# Altium schematic symbol library VTVRD.SchLib: 84 symbols
Pins are listed as number, name and electrical type; pins without a type are passive.

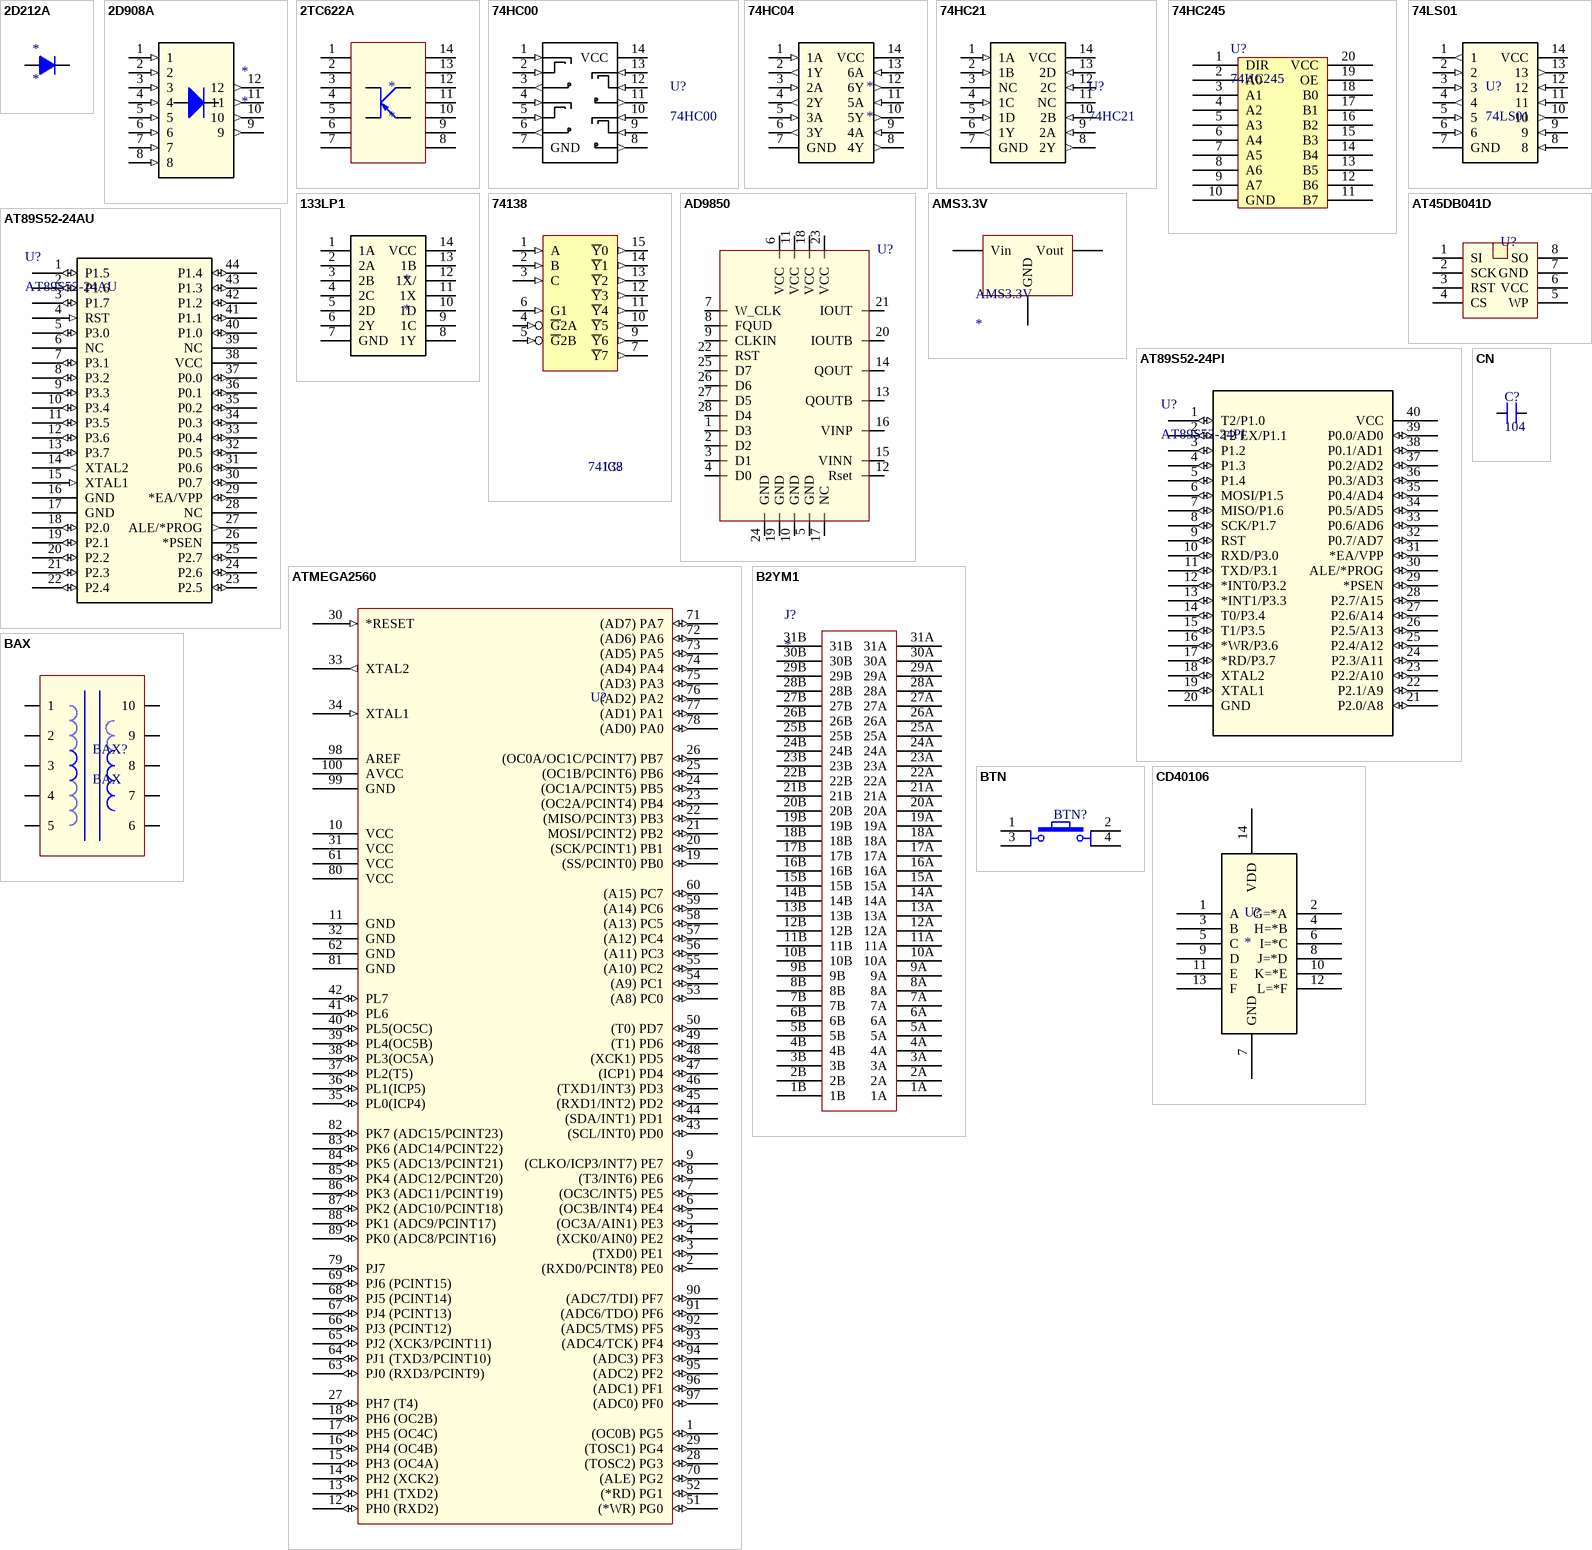
[diagram p0: symbols 2D212A to CN]

## 2D212A
designator *
footprint N2D212A
pins: 1 A, 2 K

## 2D908A
designator *
footprint 2D908A (SOIC, 14-Leads, Body 9.9x3.9mm, Pitch 1.27mm, IPC Medium Density)
pins: 1 (in), 2 (in), 3 (in), 4 (in), 5 (in), 6 (in), 7 (in), 8 (in), 9 (out), 10 (out), 11 (out), 12 (out)

## 2TC622A
designator *
footprint 74HC00
footprint N1HT251
pins: 1, 2, 3, 4, 5, 6, 7, 8, 9, 10 (power), 11, 12, 13, 14

## 74HC00
designator U?
footprint 74HC00
footprint DIP14/W0.3 (14PIN, W 300mil, Pin to pin 100mil)
pins: 1 1A (in), 2 1B (in), 3 1Y (out), 4 2A (in), 5 2B (in), 6 2Y (out), 7 GND (power), 8 3Y (out), 9 3A (in), 10 3B (in), 11 4Y (out), 12 4A (in), 13 4B (in), 14 VCC (power)

## 74HC04
designator *
footprint 74HC00
pins: 1 1A (in), 2 1Y (out), 3 2A (in), 4 2Y (out), 5 3A (in), 6 3Y (out), 7 GND (power), 8 4Y (out), 9 4A (in), 10 5Y (out), 11 5A (in), 12 6Y (out), 13 6A (in), 14 VCC (power)

## 74HC21
designator U?
footprint 74HC21
footprint DIP14/W0.3 (14PIN, W 300mil, Pin to pin 100mil)
pins: 1 1A (in), 2 1B (in), 3 NC, 4 1C (in), 5 1D (in), 6 1Y (out), 7 GND (power), 8 2Y (out), 9 2A (in), 10 2B (in), 11 NC, 12 2C (in), 13 2D (in), 14 VCC (power)

## 74HC245
designator U?
Octal bus tranceiver
footprint DIP20/W0.3 (DIP 20, 20 PIN, W 300mil, Pin to pin 100mil)
footprint SO-20 (20-Pin Small Outline Package 1.27 mm Pitch)
footprint SOT163
pins: 1 DIR, 2 A0, 3 A1, 4 A2, 5 A3, 6 A4, 7 A5, 8 A6, 9 A7, 10 GND (power), 11 B7, 12 B6, 13 B5, 14 B4, 15 B3, 16 B2, 17 B1, 18 B0, 19 OE, 20 VCC (power)

## 74LS01
designator U?
footprint DIP14/W0.3 (14PIN, W 300mil, Pin to pin 100mil)
pins: 1 (out), 2 (in), 3 (in), 4 (out), 5 (in), 6 (in), 7 GND (power), 8 (in), 9 (in), 10 (out), 11 (in), 12 (in), 13 (out), 14 VCC (power)

## 133LP1
designator *
footprint 74HC00
pins: 1 1A, 2 2A, 3 2B, 4 2C, 5 2D, 6 2Y, 7 GND (power), 8 1Y, 9 1C, 10 1D, 11 1X, 12 1X/, 13 1B, 14 VCC (power)

## 74138
designator IC?
3 -to- 8 Decoder - Out Low; Value: 74138; Copyright by: VanDungEvn@Gmail.com
footprint DIP16/W0.3 (16 PIN, W 300mil, Pin to pin 100mil)
footprint SO-16 (SOIC, 16-Leads, Body 9.9x3.9mm, Pitch 1.27mm, IPC Medium Density)
pins: 1 A (in), 2 B (in), 3 C (in), 4 ~{G}2A (in), 5 ~{G}2B (in), 6 G1 (in), 7 ~{Y}7 (out), 8 GND (power) hidden to GND, 9 ~{Y}6 (out), 10 ~{Y}5 (out), 11 ~{Y}4 (out), 12 ~{Y}3 (out), 13 ~{Y}2 (out), 14 ~{Y}1 (out), 15 ~{Y}0 (out), 16 VCC (power) hidden to VCC

## AD9850
designator U?  (value not drawn)
footprint AD9850
pins: 1 D3, 2 D2, 3 D1, 4 D0, 5 GND, 6 VCC, 7 W_CLK, 8 FQUD, 9 CLKIN, 10 GND, 11 VCC, 12 Rset, 13 QOUTB, 14 QOUT, 15 VINN, 16 VINP, 17 NC, 18 VCC, 19 GND, 20 IOUTB, 21 IOUT, 22 RST, 23 VCC, 24 GND, 25 D7, 26 D6, 27 D5, 28 D4

## AMS3.3V
designator AMS3.3V
footprint AMS117 (SOT223, 4-Leads, Body 6.7x7.3mm (max), Pitch 2.30mm, IPC Medium Density)
pins: 1 GND, 2 Vout, 3 Vin

## AT45DB041D
designator U?  (value not drawn)
footprint AT45DB161D
footprint SOP8_AT45DB
pins: 1 SI, 2 SCK, 3 RST, 4 CS, 5 WP, 6 VCC, 7 GND, 8 SO

## AT89S52-24AU
designator U?
Vendor: Atmel; Built_By: EMA_UL_Team; SourceLibrary: Atmel_2015-02-13; Manufacturer_Part_Number: AT89S52-24AU; Copyright: Copyright (C) 2018 Accelerated Designs. All rights reserved; RefDes: RefDes; Type: DEV
footprint TQFP-44
pins: 1 P1.5 (io), 2 P1.6 (io), 3 P1.7 (io), 4 RST (in), 5 P3.0 (io), 6 NC, 7 P3.1 (io), 8 P3.2 (io), 9 P3.3 (io), 10 P3.4 (io), 11 P3.5 (io), 12 P3.6 (io), 13 P3.7 (io), 14 XTAL2 (out), 15 XTAL1 (in), 16 GND (power), 17 GND (power), 18 P2.0 (io), 19 P2.1 (io), 20 P2.2 (io), 21 P2.3 (io), 22 P2.4 (io), 23 P2.5 (io), 24 P2.6 (io), 25 P2.7 (io), 26 *PSEN, 27 ALE/*PROG (out), 28 NC, 29 *EA/VPP (io), 30 P0.7 (io), 31 P0.6 (io), 32 P0.5 (io), 33 P0.4 (io), 34 P0.3 (io), 35 P0.2 (io), 36 P0.1 (io), 37 P0.0 (io), 38 VCC (power), 39 NC, 40 P1.0 (io), 41 P1.1 (io), 42 P1.2 (io), 43 P1.3 (io), 44 P1.4 (io)

## AT89S52-24PI
designator U?
Vendor: Atmel; Built_By: EMA_UL_Team; SourceLibrary: Atmel_2014-06-19; Manufacturer_Part_Number: AT89S52-24PI; Copyright: Copyright (C) 2018 Accelerated Designs. All rights reserved; RefDes: RefDes; Type: DEV
footprint DIP40/W0.6 (40 PIN, W 600mil, Pin to pin 100mil)
pins: 1 T2/P1.0 (io), 2 T2 EX/P1.1 (io), 3 P1.2 (io), 4 P1.3 (io), 5 P1.4 (io), 6 MOSI/P1.5 (io), 7 MISO/P1.6 (io), 8 SCK/P1.7 (io), 9 RST (io), 10 RXD/P3.0 (io), 11 TXD/P3.1 (io), 12 *INT0/P3.2 (io), 13 *INT1/P3.3 (io), 14 T0/P3.4 (io), 15 T1/P3.5 (io), 16 *WR/P3.6 (io), 17 *RD/P3.7 (io), 18 XTAL2 (io), 19 XTAL1 (io), 20 GND (power), 21 P2.0/A8 (io), 22 P2.1/A9 (io), 23 P2.2/A10 (io), 24 P2.3/A11 (io), 25 P2.4/A12 (io), 26 P2.5/A13 (io), 27 P2.6/A14 (io), 28 P2.7/A15 (io), 29 *PSEN (io), 30 ALE/*PROG (io), 31 *EA/VPP (io), 32 P0.7/AD7 (io), 33 P0.6/AD6 (io), 34 P0.5/AD5 (io), 35 P0.4/AD4 (io), 36 P0.3/AD3 (io), 37 P0.2/AD2 (io), 38 P0.1/AD1 (io), 39 P0.0/AD0 (io), 40 VCC (power)

## ATMEGA2560
designator U?, comment ATMEGA2560-16AU  (value not drawn)
No Description Available; Mfr_Name: Microchip; Copyright: Copyright (C) 2022 Ultra Librarian. All rights reserved.; Manufacturer_Part_Number: ATMEGA2560-16AU; RefDes: RefDes; Type: DEV
footprint TQFP-100
pins: 1 (OC0B) PG5 (io), 2 (RXD0/PCINT8) PE0 (io), 3 (TXD0) PE1 (io), 4 (XCK0/AIN0) PE2 (io), 5 (OC3A/AIN1) PE3 (io), 6 (OC3B/INT4) PE4 (io), 7 (OC3C/INT5) PE5 (io), 8 (T3/INT6) PE6 (io), 9 (CLKO/ICP3/INT7) PE7 (io), 10 VCC (power), 11 GND (power), 12 PH0 (RXD2) (io), 13 PH1 (TXD2) (io), 14 PH2 (XCK2) (io), 15 PH3 (OC4A) (io), 16 PH4 (OC4B) (io), 17 PH5 (OC4C) (io), 18 PH6 (OC2B) (io), 19 (SS/PCINT0) PB0 (io), 20 (SCK/PCINT1) PB1 (io), 21 MOSI/PCINT2) PB2 (io), 22 (MISO/PCINT3) PB3 (io), 23 (OC2A/PCINT4) PB4 (io), 24 (OC1A/PCINT5) PB5 (io), 25 (OC1B/PCINT6) PB6 (io), 26 (OC0A/OC1C/PCINT7) PB7 (io), 27 PH7 (T4) (io), 28 (TOSC2) PG3 (io), 29 (TOSC1) PG4 (io), 30 *RESET (in), 31 VCC (power), 32 GND (power), 33 XTAL2 (out), 34 XTAL1 (in), 35 PL0(ICP4) (io), 36 PL1(ICP5) (io), 37 PL2(T5) (io), 38 PL3(OC5A) (io), 39 PL4(OC5B) (io), 40 PL5(OC5C) (io), 41 PL6 (io), 42 PL7 (io), 43 (SCL/INT0) PD0 (io), 44 (SDA/INT1) PD1 (io), 45 (RXD1/INT2) PD2 (io), 46 (TXD1/INT3) PD3 (io), 47 (ICP1) PD4 (io), 48 (XCK1) PD5 (io), 49 (T1) PD6 (io), 50 (T0) PD7 (io), 51 (*WR) PG0 (io), 52 (*RD) PG1 (io), 53 (A8) PC0 (io), 54 (A9) PC1 (io), 55 (A10) PC2 (io), 56 (A11) PC3 (io), 57 (A12) PC4 (io), 58 (A13) PC5 (io), 59 (A14) PC6 (io), 60 (A15) PC7 (io), 61 VCC (power), 62 GND (power), 63 PJ0 (RXD3/PCINT9) (io), 64 PJ1 (TXD3/PCINT10) (io), 65 PJ2 (XCK3/PCINT11) (io), 66 PJ3 (PCINT12) (io), 67 PJ4 (PCINT13) (io), 68 PJ5 (PCINT14) (io), 69 PJ6 (PCINT15) (io), 70 (ALE) PG2 (io), 71 (AD7) PA7 (io), 72 (AD6) PA6 (io), 73 (AD5) PA5 (io), 74 (AD4) PA4 (io), 75 (AD3) PA3 (io), 76 (AD2) PA2 (io), 77 (AD1) PA1 (io), 78 (AD0) PA0 (io), 79 PJ7 (io), 80 VCC (power), 81 GND (power), 82 PK7 (ADC15/PCINT23) (io), 83 PK6 (ADC14/PCINT22) (io), 84 PK5 (ADC13/PCINT21) (io), 85 PK4 (ADC12/PCINT20) (io), 86 PK3 (ADC11/PCINT19) (io), 87 PK2 (ADC10/PCINT18) (io), 88 PK1 (ADC9/PCINT17) (io), 89 PK0 (ADC8/PCINT16) (io), 90 (ADC7/TDI) PF7 (io), 91 (ADC6/TDO) PF6 (io), 92 (ADC5/TMS) PF5 (io), 93 (ADC4/TCK) PF4 (io), 94 (ADC3) PF3 (io), 95 (ADC2) PF2 (io), 96 (ADC1) PF1 (io), 97 (ADC0) PF0 (io), 98 AREF (power), 99 GND, 100 AVCC (power)

## B2YM1
designator J?
footprint B2YM1
footprint B2YM1_J
pins: 1A, 1B, 2A, 2B, 3A, 3B, 4A, 4B, 5A, 5B, 6A, 6B, 7A, 7B, 8A, 8B, 9A, 9B, 10A, 10B, 11A, 11B, 12A, 12B, 13A, 13B, 14A, 14B, 15A, 15B, 16A, 16B, 17A, 17B, 18A, 18B, 19A, 19B, 20A, 20B, 21A, 21B, 22A, 22B, 23A, 23B, 24A, 24B, 25A, 25B, 26A, 26B, 27A, 27B, 28A, 28B, 29A, 29B, 30A, 30B, 31A, 31B

## BAX
designator BAX?
footprint BAX_5v5
pins: 1, 2, 3, 4, 5, 6, 7, 8, 9, 10

## BTN
designator BTN?  (value not drawn)
footprint BTN_SMD
pins: 1, 2, 3, 4

## CD40106
designator U?
footprint DIP14/W0.3 (14PIN, W 300mil, Pin to pin 100mil)
pins: 1 A, 2 G=*A, 3 B, 4 H=*B, 5 C, 6 I=*C, 7 GND (power), 8 J=*D, 9 D, 10 K=*E, 11 E, 12 L=*F, 13 F, 14 VDD (power)

## CN
designator C?, comment 104
footprint 0603
footprint 0805
footprint 1206
footprint CN2.5 (Tu pin to pin 250mil)
pins: 1, 2

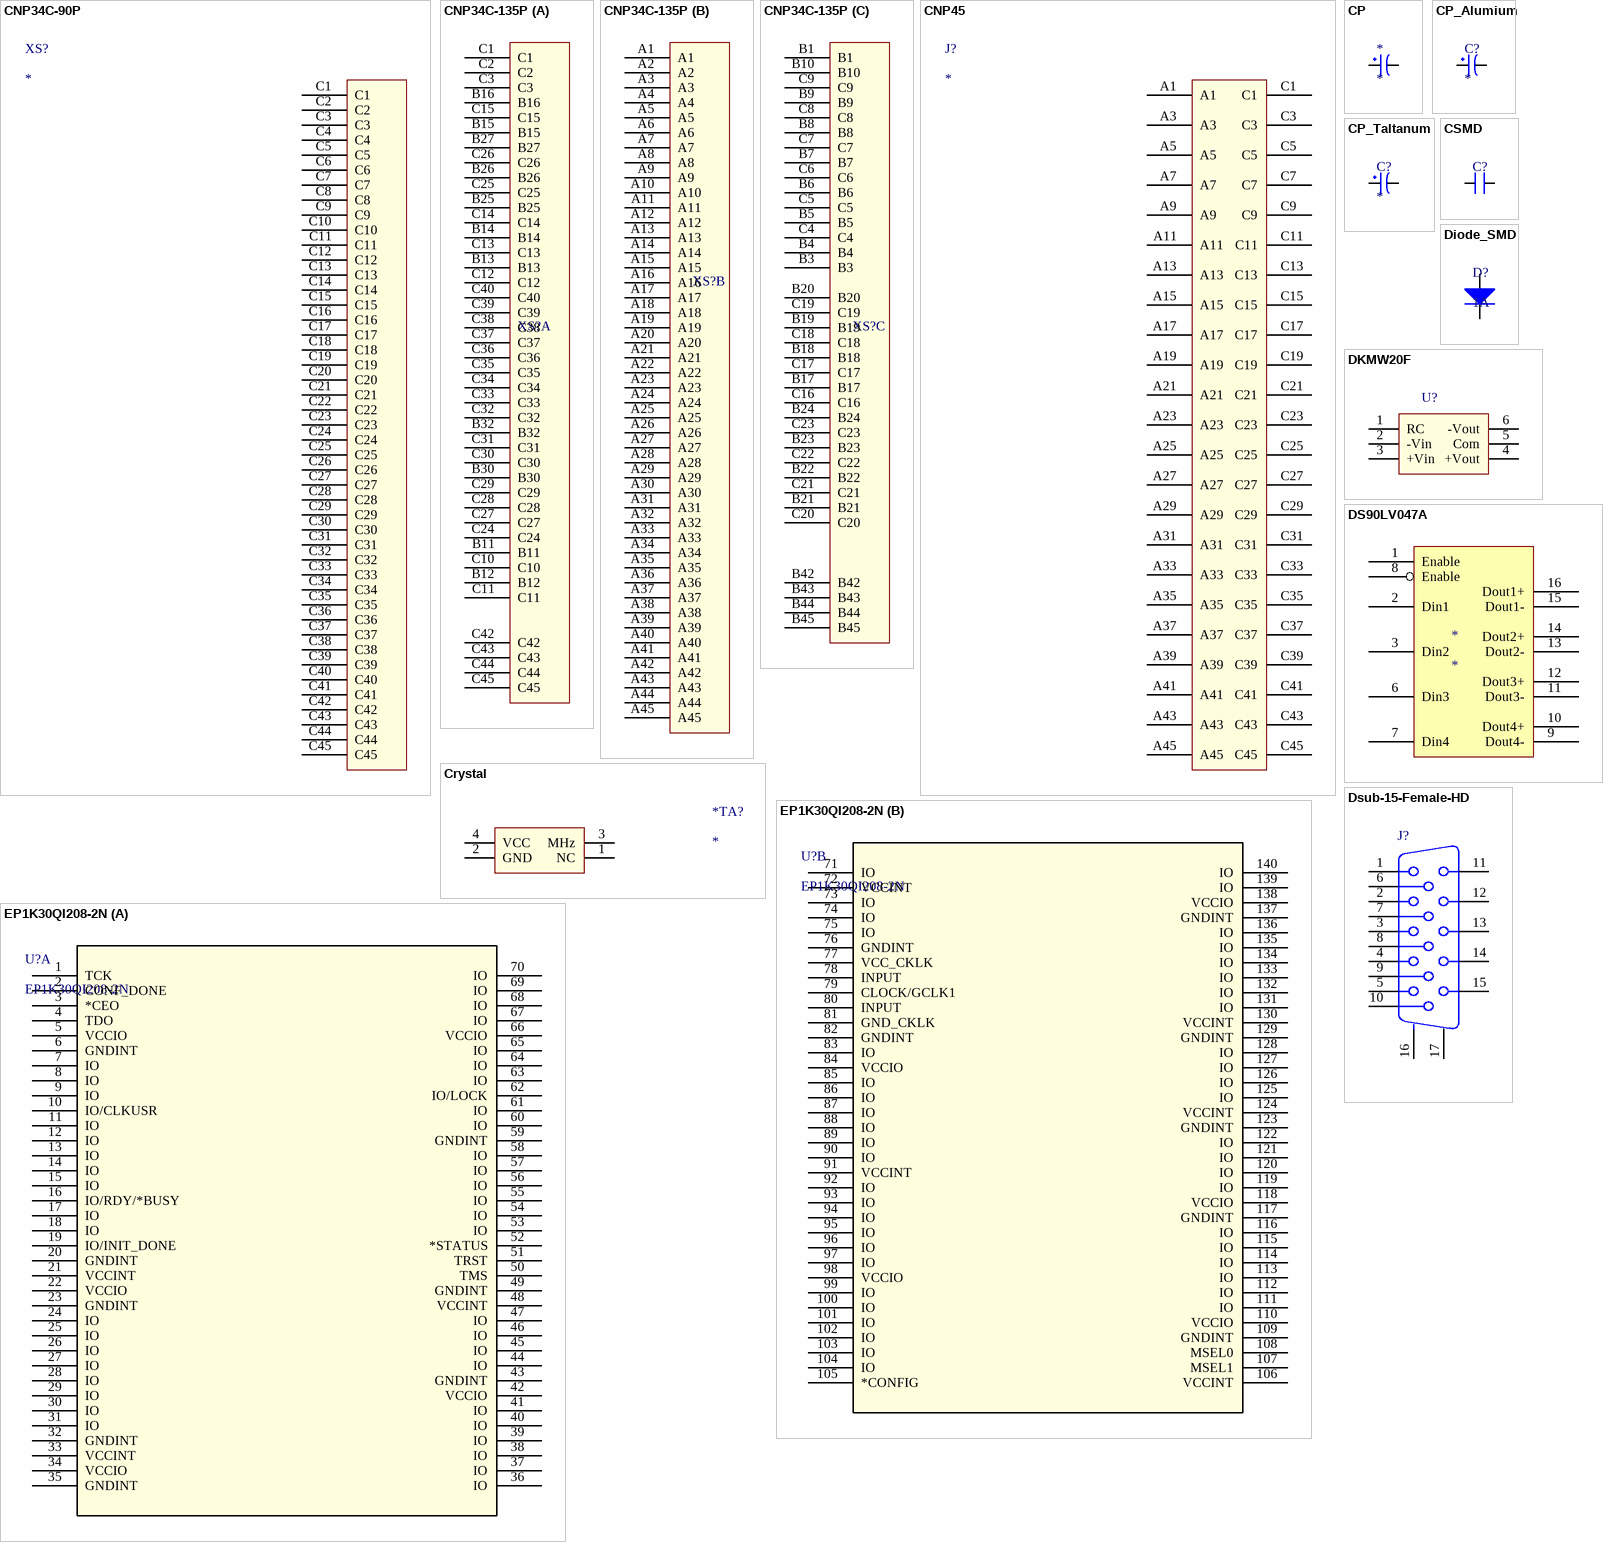
[diagram p1: symbols CNP34C-90P to EP1K30QI208-2N]

## CNP34C-90P
designator XS?
footprint CNP34C-46P
footprint CNP34-90P
pins: C1, C2, C3, C4, C5, C6, C7, C8, C9, C10, C11, C12, C13, C14, C15, C16, C17, C18, C19, C20, C21, C22, C23, C24, C25, C26, C27, C28, C29, C30, C31, C32, C33, C34, C35, C36, C37, C38, C39, C40, C41, C42, C43, C44, C45

## CNP34C-135P
designator XS?  (value not drawn)
footprint CNP34-135P
part A pins: B11, B12, B13, B14, B15, B16, B25, B26, B27, B30, B32, C1, C2, C3, C10, C11, C12, C13, C14, C15, C24, C25, C26, C27, C28, C29, C30, C31, C32, C33, C34, C35, C36, C37, C38, C39, C40, C42, C43, C44, C45
part B pins: A1, A2, A3, A4, A5, A6, A7, A8, A9, A10, A11, A12, A13, A14, A15, A16, A17, A18, A19, A20, A21, A22, A23, A24, A25, A26, A27, A28, A29, A30, A31, A32, A33, A34, A35, A36, A37, A38, A39, A40, A41, A42, A43, A44, A45
part C pins: B1, B3, B4, B5, B6, B7, B8, B9, B10, B17, B18, B19, B20, B21, B22, B23, B24, B42, B43, B44, B45, C4, C5, C6, C7, C8, C9, C16, C17, C18, C19, C20, C21, C22, C23

## CNP45
designator J?
footprint CNP34C-46P
pins: A1, A3, A5, A7, A9, A11, A13, A15, A17, A19, A21, A23, A25, A27, A29, A31, A33, A35, A37, A39, A41, A43, A45, C1, C3, C5, C7, C9, C11, C13, C15, C17, C19, C21, C23, C25, C27, C29, C31, C33, C35, C37, C39, C41, C43, C45

## CP
designator *
footprint CP1/2/5mm (Tu hoa < 22uF/16>50V)
footprint CP1/2.5/6.3mm (Tu hoa 33 >100 uF,50V, 220uF/16V,25V)
footprint CP1/2.5_SM/6.3mm (Tu hoa SMD 33 >100 uF,50V, 220uF/16V,25V)
footprint CP1/3.0/7.62mm
footprint CP1.5/2.5/6.3mm (Tu hoa 33 >100 uF,50V, 220uF/16V,25V ( it su dung ))
footprint CP1.5/3.4/8.6mm (Tu hoa 220->470uF,16V, 470uF/16V,25V)
footprint CP2/4/10mm (Tu hoa 1000uF/16V/25V)
footprint CP2/5/12.7mm (Tu hoa 1000uF/25V,50V)
footprint CP3/7/15.2mm (Tu hoa 4700uF/25V)
footprint CP4/8.5/21.5mm (Tu hoa 4700uF/50V)
footprint CP4/12/30.4mm (Tu hoa 220uF/450V)
footprint CP4.5/19/43.2mm (Tu hoa 10,000uF/63V)
pins: 1, 2

## CP_Alumium
designator C?
footprint Alumium 4x5.5
footprint Alumium 5x6
footprint Alumium 6.3x5.4
footprint Alumium 6.3x7.7
footprint Alumium 8x10
footprint Alumium 10x10
footprint Alumium 12.5x13.5
footprint Alumium 16x16.5
pins: 1, 2

## CP_Taltanum
designator C?
footprint 3216
footprint 3528
footprint 6032
footprint 7343
pins: 1, 2

## Crystal
designator *TA?
footprint Crystal_50MHz
footprint TA0815
pins: 1 NC, 2 GND, 3 MHz, 4 VCC

## CSMD
designator C?  (value not drawn)
footprint SM-0805 (Compoment SMD 80x50mil)
footprint SM-1206 (Compoment SMD 120x60mil)
footprint CN2.5 (Tu pin to pin 250mil)
pins: 1, 2

## Diode_SMD
designator D?, comment 1A
footprint SS14
footprint SS16
footprint SS24
footprint SS26
footprint SS34
pins: 1 K, 2 A

## DKMW20F
designator U?  (value not drawn)
footprint DKMW20F
pins: 1 RC, 2 -Vin, 3 +Vin, 4 +Vout, 5 Com, 6 -Vout

## DS90LV047A
designator *
pins: 1 Enable, 2 Din1, 3 Din2, 6 Din3, 7 Din4, 8 Enable, 9 Dout4-, 10 Dout4+ (power), 11 Dout3-, 12 Dout3+, 13 Dout2-, 14 Dout2+, 15 Dout1-, 16 Dout1+

## Dsub-15-Female-HD
designator J?
7915 Series Dsub-15 High density VGA Female connector; Published: 5-Jan-2004; Publisher: Altium Limited
footprint DB15-VGA-Female (7915 Series DSUB Right Angle VGA Female connector; Body Width, 30.81mm, 15 Positions)
pins: 1 "Red Video", 2 "Green Video", 3 "Blue Video", 4 "Monitor ID Bit 2 (Ground)", 5 (power) "Ground", 6 (power) "Red Return (Ground)", 7 (power) "Green Return (Ground)", 8 (power) "Blue Return (Ground)", 9 "Key (not used)", 10 (power) "Sync Return (Ground)", 11 (power) "Monitor ID Bit 0 (Ground)", 12 "Monitor ID Bit 1 (Not Used)", 13 "Horizontal Zync", 14 "Vertical Sync", 15 "Vertical Sync", 16 MH1 "shield", 17 MH2 "shield"

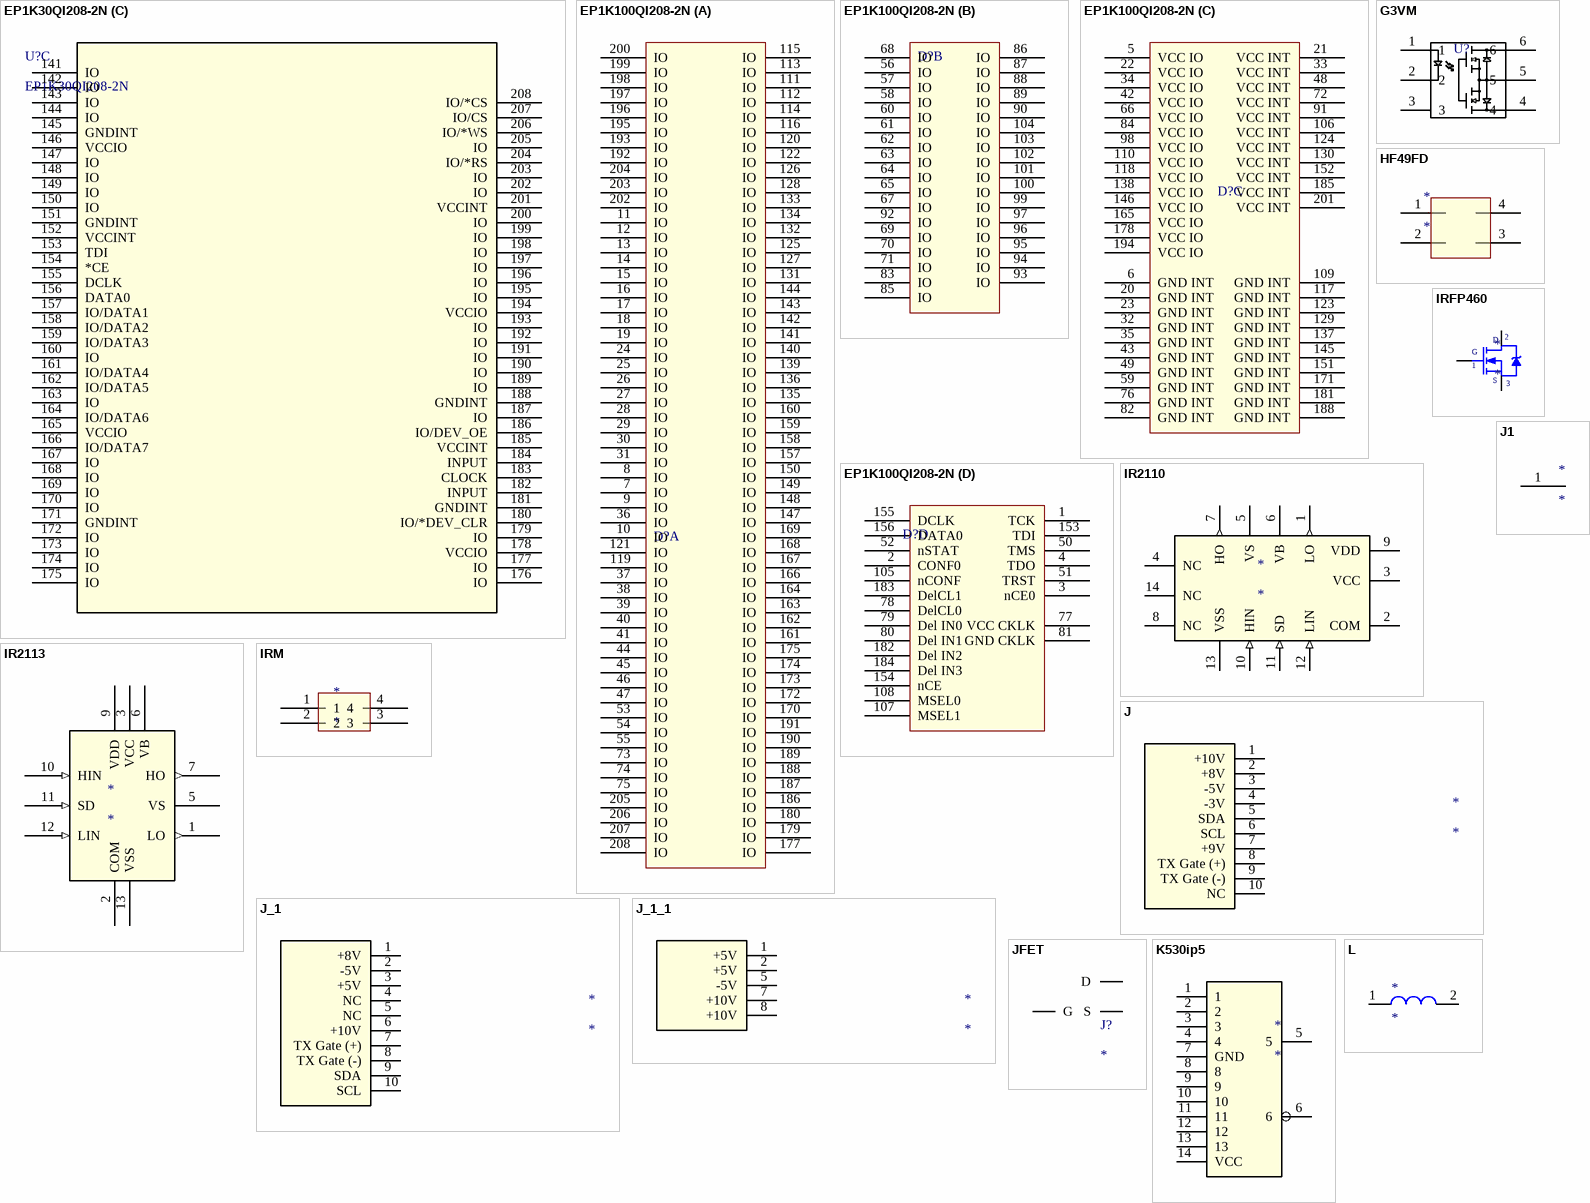
[diagram p2: symbols EP1K30QI208-2N to L]

## EP1K30QI208-2N
designator U?
No Description Available; Mfr_Name: Altera; Copyright: Copyright (C) 2021 Ultra Librarian. All rights reserved.; Manufacturer_Part_Number: EP1K30QI208-2N; RefDes: RefDes; Type: DEV
footprint 208-PQFP_ALR
part A pins: 1 TCK, 2 CONF_DONE, 3 *CEO, 4 TDO, 5 VCCIO, 6 GNDINT, 7 IO, 8 IO, 9 IO, 10 IO/CLKUSR, 11 IO, 12 IO, 13 IO, 14 IO, 15 IO, 16 IO/RDY/*BUSY, 17 IO, 18 IO, 19 IO/INIT_DONE, 20 GNDINT, 21 VCCINT, 22 VCCIO, 23 GNDINT, 24 IO, 25 IO, 26 IO, 27 IO, 28 IO, 29 IO, 30 IO, 31 IO, 32 GNDINT, 33 VCCINT, 34 VCCIO, 35 GNDINT, 36 IO, 37 IO, 38 IO, 39 IO, 40 IO, 41 IO, 42 VCCIO, 43 GNDINT, 44 IO, 45 IO, 46 IO, 47 IO, 48 VCCINT, 49 GNDINT, 50 TMS, 51 TRST, 52 *STATUS, 53 IO, 54 IO, 55 IO, 56 IO, 57 IO, 58 IO, 59 GNDINT, 60 IO, 61 IO, 62 IO/LOCK, 63 IO, 64 IO, 65 IO, 66 VCCIO, 67 IO, 68 IO, 69 IO, 70 IO
part B pins: 71 IO, 72 VCCINT, 73 IO, 74 IO, 75 IO, 76 GNDINT, 77 VCC_CKLK, 78 INPUT, 79 CLOCK/GCLK1, 80 INPUT, 81 GND_CKLK, 82 GNDINT, 83 IO, 84 VCCIO, 85 IO, 86 IO, 87 IO, 88 IO, 89 IO, 90 IO, 91 VCCINT, 92 IO, 93 IO, 94 IO, 95 IO, 96 IO, 97 IO, 98 VCCIO, 99 IO, 100 IO, 101 IO, 102 IO, 103 IO, 104 IO, 105 *CONFIG, 106 VCCINT, 107 MSEL1, 108 MSEL0, 109 GNDINT, 110 VCCIO, 111 IO, 112 IO, 113 IO, 114 IO, 115 IO, 116 IO, 117 GNDINT, 118 VCCIO, 119 IO, 120 IO, 121 IO, 122 IO, 123 GNDINT, 124 VCCINT, 125 IO, 126 IO, 127 IO, 128 IO, 129 GNDINT, 130 VCCINT, 131 IO, 132 IO, 133 IO, 134 IO, 135 IO, 136 IO, 137 GNDINT, 138 VCCIO, 139 IO, 140 IO
part C pins: 141 IO, 142 IO, 143 IO, 144 IO, 145 GNDINT, 146 VCCIO, 147 IO, 148 IO, 149 IO, 150 IO, 151 GNDINT, 152 VCCINT, 153 TDI, 154 *CE, 155 DCLK, 156 DATA0, 157 IO/DATA1, 158 IO/DATA2, 159 IO/DATA3, 160 IO, 161 IO/DATA4, 162 IO/DATA5, 163 IO, 164 IO/DATA6, 165 VCCIO, 166 IO/DATA7, 167 IO, 168 IO, 169 IO, 170 IO, 171 GNDINT, 172 IO, 173 IO, 174 IO, 175 IO, 176 IO, 177 IO, 178 VCCIO, 179 IO, 180 IO/*DEV_CLR, 181 GNDINT, 182 INPUT, 183 CLOCK, 184 INPUT, 185 VCCINT, 186 IO/DEV_OE, 187 IO, 188 GNDINT, 189 IO, 190 IO, 191 IO, 192 IO, 193 IO, 194 VCCIO, 195 IO, 196 IO, 197 IO, 198 IO, 199 IO, 200 IO, 201 VCCINT, 202 IO, 203 IO, 204 IO/*RS, 205 IO, 206 IO/*WS, 207 IO/CS, 208 IO/*CS

## EP1K100QI208-2N
designator D?  (value not drawn)
footprint 208-PQFP_ALR
part A pins: 7 IO, 8 IO, 9 IO, 10 IO, 11 IO, 12 IO, 13 IO, 14 IO, 15 IO, 16 IO, 17 IO, 18 IO, 19 IO, 24 IO, 25 IO, 26 IO, 27 IO, 28 IO, 29 IO, 30 IO, 31 IO, 36 IO, 37 IO, 38 IO, 39 IO, 40 IO, 41 IO, 44 IO, 45 IO, 46 IO, 47 IO, 53 IO, 54 IO, 55 IO, 73 IO, 74 IO, 75 IO, 111 IO, 112 IO, 113 IO, 114 IO, 115 IO, 116 IO, 119 IO, 120 IO, 121 IO, 122 IO, 125 IO, 126 IO, 127 IO, 128 IO, 131 IO, 132 IO, 133 IO, 134 IO, 135 IO, 136 IO, 139 IO, 140 IO, 141 IO, 142 IO, 143 IO, 144 IO, 147 IO, 148 IO, 149 IO, 150 IO, 157 IO, 158 IO, 159 IO, 160 IO, 161 IO, 162 IO, 163 IO, 164 IO, 166 IO, 167 IO, 168 IO, 169 IO, 170 IO, 172 IO, 173 IO, 174 IO, 175 IO, 177 IO, 179 IO, 180 IO, 186 IO, 187 IO, 188 IO, 189 IO, 190 IO, 191 IO, 192 IO, 193 IO, 195 IO, 196 IO, 197 IO, 198 IO, 199 IO, 200 IO, 202 IO, 203 IO, 204 IO, 205 IO, 206 IO, 207 IO, 208 IO
part B pins: 56 IO, 57 IO, 58 IO, 60 IO, 61 IO, 62 IO, 63 IO, 64 IO, 65 IO, 67 IO, 68 IO, 69 IO, 70 IO, 71 IO, 83 IO, 85 IO, 86 IO, 87 IO, 88 IO, 89 IO, 90 IO, 92 IO, 93 IO, 94 IO, 95 IO, 96 IO, 97 IO, 99 IO, 100 IO, 101 IO, 102 IO, 103 IO, 104 IO
part C pins: 5 VCC IO, 6 GND INT, 20 GND INT, 21 VCC INT, 22 VCC IO, 23 GND INT, 32 GND INT, 33 VCC INT, 34 VCC IO, 35 GND INT, 42 VCC IO, 43 GND INT, 48 VCC INT, 49 GND INT, 59 GND INT, 66 VCC IO, 72 VCC INT, 76 GND INT, 82 GND INT, 84 VCC IO, 91 VCC INT, 98 VCC IO, 106 VCC INT, 109 GND INT, 110 VCC IO, 117 GND INT, 118 VCC IO, 123 GND INT, 124 VCC INT, 129 GND INT, 130 VCC INT, 137 GND INT, 138 VCC IO, 145 GND INT, 146 VCC IO, 151 GND INT, 152 VCC INT, 165 VCC IO, 171 GND INT, 178 VCC IO, 181 GND INT, 185 VCC INT, 188 GND INT, 194 VCC IO, 201 VCC INT
part D pins: 1 TCK, 2 CONF0, 3 nCE0, 4 TDO, 50 TMS, 51 TRST, 52 nSTAT, 77 VCC CKLK, 78 DelCL0, 79 Del IN0, 80 Del IN1, 81 GND CKLK, 105 nCONF, 107 MSEL1, 108 MSEL0, 153 TDI, 154 nCE, 155 DCLK, 156 DATA0, 182 Del IN2, 183 DelCL1, 184 Del IN3

## G3VM
designator U?  (value not drawn)
footprint G3VM
pins: 1, 2, 3, 4, 5, 6

## HF49FD
designator *
footprint HF49FD
pins: 1, 2, 3, 4

## IR2110
designator *
footprint PG-DIP-14-1_INF
pins: 1 LO (out), 2 COM, 3 VCC (power), 4 NC, 5 VS (power), 6 VB (power), 7 HO (out), 8 NC, 9 VDD (power), 10 HIN (in), 11 SD (in), 12 LIN (in), 13 VSS (power), 14 NC

## IR2113
designator *
footprint DIP14/W0.3 (14PIN, W 300mil, Pin to pin 100mil)
pins: 1 LO (out), 2 COM, 3 VCC (power), 5 VS, 6 VB (power), 7 HO (out), 9 VDD (power), 10 HIN (in), 11 SD (in), 12 LIN (in), 13 VSS

## IRFP460
designator *
footprint IRFP460
footprint IRFP460 - no
pins: 1 G, 2 D, 3 S

## IRM
designator *
footprint IRM
pins: 1, 2, 3, 4

## J
designator *
pins: 1 +10V, 2 +8V, 3 -5V, 4 -3V, 5 SDA, 6 SCL, 7 +9V (power), 8 TX Gate (+), 9 TX Gate (-), 10 NC

## J1
designator *
footprint J1
pins: 1

## J_1
designator *
pins: 1 +8V, 2 -5V, 3 +5V, 4 NC, 5 NC, 6 +10V, 7 TX Gate (+) (power), 8 TX Gate (-), 9 SDA, 10 SCL

## J_1_1
designator *
pins: 1 +5V, 2 +5V, 5 -5V, 7 +10V (power), 8 +10V

## JFET
designator J?
footprint TO-92
pins: 1 D, 2 G, 3 S

## K530ip5
designator *
footprint 74HC00
pins: 1, 2, 3, 4, 5, 6, 7 GND (power), 8, 9, 10, 11, 12, 13, 14 VCC (power)

## L
designator *
footprint L
pins: 1 11, 2 12

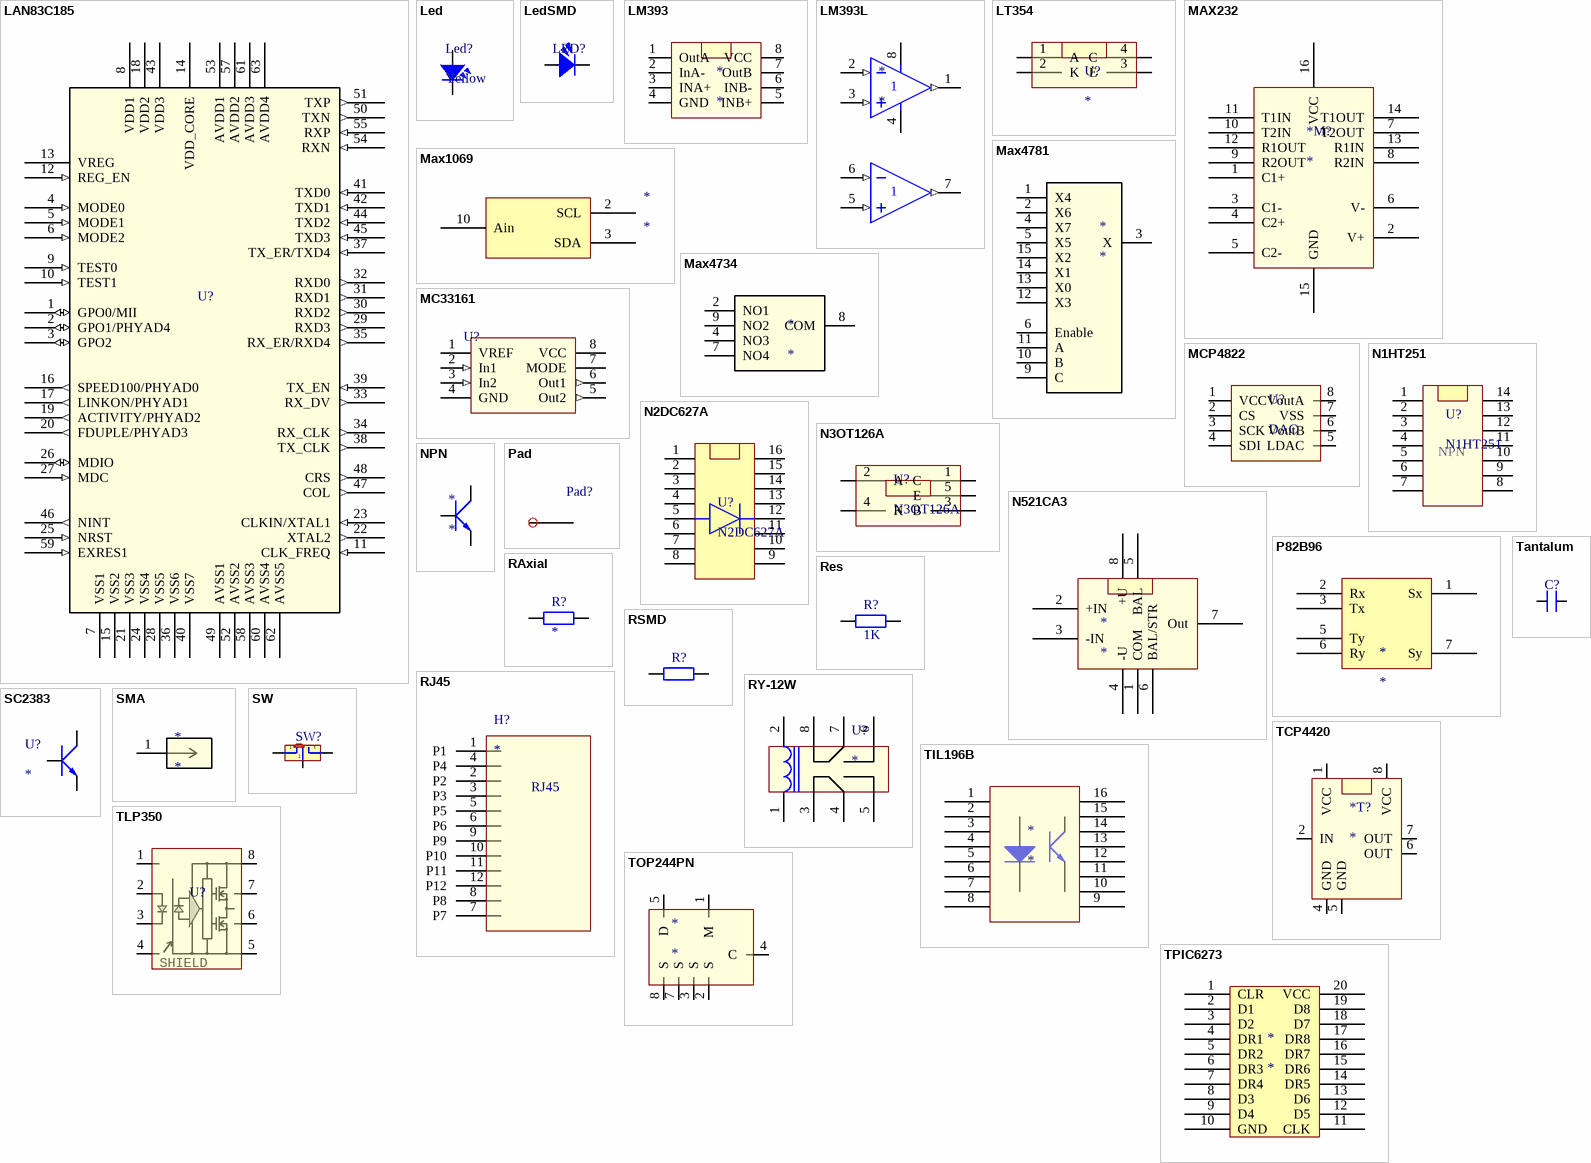
[diagram p3: symbols LAN83C185 to TPIC6273]

## LAN83C185
designator U?  (value not drawn)
footprint TQFP-64
pins: 1 GPO0/MII (io), 2 GPO1/PHYAD4 (io), 3 GPO2 (io), 4 MODE0 (in), 5 MODE1 (in), 6 MODE2 (in), 7 VSS1 (power), 8 VDD1 (power), 9 TEST0 (in), 10 TEST1 (in), 11 CLK_FREQ (in), 12 REG_EN (in), 13 VREG (power), 14 VDD_CORE (power), 15 VSS2 (power), 16 SPEED100/PHYAD0 (out), 17 LINKON/PHYAD1 (out), 18 VDD2 (power), 19 ACTIVITY/PHYAD2 (out), 20 FDUPLE/PHYAD3 (out), 21 VSS3 (power), 22 XTAL2 (out), 23 CLKIN/XTAL1 (in), 24 VSS4 (power), 25 NRST (in), 26 MDIO (io), 27 MDC (in), 28 VSS5 (power), 29 RXD3 (out), 30 RXD2 (out), 31 RXD1 (out), 32 RXD0 (out), 33 RX_DV (out), 34 RX_CLK (out), 35 RX_ER/RXD4 (out), 36 VSS6 (power), 37 TX_ER/TXD4 (in), 38 TX_CLK (out), 39 TX_EN (in), 40 VSS7 (power), 41 TXD0 (in), 42 TXD1 (in), 43 VDD3 (power), 44 TXD2 (in), 45 TXD3 (in), 46 NINT (out), 47 COL (out), 48 CRS (out), 49 AVSS1 (power), 50 TXN (out), 51 TXP (out), 52 AVSS2 (power), 53 AVDD1 (power), 54 RXN (in), 55 RXP (in), 57 AVDD2 (power), 58 AVSS3 (power), 59 EXRES1 (in), 60 AVSS4 (power), 61 AVDD3 (power), 62 AVSS5 (power), 63 AVDD4 (power)

## Led
designator Led?, comment Yellow
footprint 1206
footprint 0805
footprint 0603
pins: 1, 2

## LedSMD
designator LED?  (value not drawn)
footprint LED-0805-Yellow
footprint LED-1206-Yellow
pins: 1, 2

## LM393
designator *
footprint DIP8/W0.3 (8 PIN, W 300mil, Pin to pin 100mil)
pins: 1 OutA, 2 InA-, 3 INA+, 4 GND, 5 INB+, 6 INB-, 7 OutB, 8 VCC

## LM393L
designator *
footprint DIP8/W0.3 (8 PIN, W 300mil, Pin to pin 100mil)
pins: 1 OUTA (out), 2 IN- (in), 3 IN+ (in), 4 V- (power), 5 IN+ (in), 6 IN- (in), 7 OUTB (out), 8 V+ (power)

## LT354
designator U?
footprint L354
pins: 1 A, 2 K, 3 E, 4 C

## MAX232
designator *M?
footprint MAX232
pins: 1 C1+, 2 V+, 3 C1-, 4 C2+, 5 C2-, 6 V-, 7 T2OUT, 8 R2IN, 9 R2OUT, 10 T2IN, 11 T1IN, 12 R1OUT, 13 R1IN, 14 T1OUT, 15 GND, 16 VCC

## Max1069
designator *
pins: 2 SCL, 3 SDA, 10 Ain (power)

## Max4734
designator *
pins: 2 NO1, 4 NO3, 7 NO4, 8 COM, 9 NO2

## Max4781
designator *
pins: 1 X4, 2 X6, 3 X, 4 X7, 5 X5, 6 Enable, 9 C, 10 B, 11 A, 12 X3, 13 X0, 14 X1, 15 X2 (power)

## MC33161
designator U?  (value not drawn)
footprint MC33161
footprint SOIC8_ONS
pins: 1 VREF (power), 2 In1 (in), 3 In2 (in), 4 GND (power), 5 Out2 (out), 6 Out1 (out), 7 MODE, 8 VCC (power)

## MCP4822
designator U?, comment DAC
footprint MSOP8_MC_MCH
pins: 1 VCC, 2 CS, 3 SCK, 4 SDI, 5 LDAC, 6 VoutB, 7 VSS, 8 VoutA

## N1HT251
designator U?
footprint N1HT251
pins: 1, 2, 3, 4, 5, 6, 7, 8, 9, 10, 11, 12, 13, 14
text: NPN

## N2DC627A
designator U?
footprint N2DC627A
pins: 1, 2, 3, 4, 5, 6, 7, 8, 9, 10, 11, 12, 13, 14, 15, 16

## N3OT126A
designator U?
footprint N3OT126A
pins: 1 C, 2 A, 3 B, 4 K, 5 E

## N521CA3
designator *
footprint N521CA3
pins: 1 COM, 2 +IN, 3 -IN, 4 -U, 5 BAL, 6 BAL/STR, 7 Out, 8 +U

## NPN
designator *
footprint N2T630B
pins: 1 E, 2 B, 3 C

## P82B96
designator *
pins: 1 Sx, 2 Rx, 3 Tx, 5 Ty, 6 Ry, 7 Sy

## Pad
designator Pad?  (value not drawn)
footprint Pad
pins: 1

## RAxial
designator R?
footprint R1/4W (R 1/4W, 2 Pin, 350mil)
footprint R1/2 (R 1/4W, 2 Pin, 600mil)
pins: 1, 2

## Res
designator R?, comment 1K
footprint 0603
footprint 0805
footprint 1206
footprint 2512
pins: 1, 2

## RJ45
designator H?
footprint RJ45
pins: 1 P1, 2 P2, 3 P3, 4 P4, 5 P5, 6 P6, 7 P7, 8 P8, 9 P9, 10 P10, 11 P11, 12 P12

## RSMD
designator R?  (value not drawn)
footprint SM-0805 (Compoment SMD 80x50mil)
footprint SM-1206 (Compoment SMD 120x60mil)
pins: 1, 2

## RY-12W
designator U?
footprint RELAY
footprint RY12W_SMD
footprint SMI-05VDC/5A
pins: 1, 2, 3, 4, 5, 6, 7, 8

## SC2383
designator U?
footprint SOT89 (SOT89, 3-Leads, Body 4.5x2.4mm (max), Pitch 1.50mm, Lead Span 4.1mm, IPC Medium Density)
footprint QTO-92A (TO-92)
pins: 1 B, 2 C, 3 E

## SMA
designator *
footprint SMA
pins: 1

## SW
designator SW?  (value not drawn)
footprint SW-GAT
pins: 1, 2, 3

## Tantalum
designator C?  (value not drawn)
footprint CN2
pins: 1, 2

## TCP4420
designator *T?
footprint DIP8/W0.3 (8 PIN, W 300mil, Pin to pin 100mil)
footprint SOIC8_ONS
pins: 1 VCC, 2 IN, 3 NC hidden, 4 GND, 5 GND, 6 OUT, 7 OUT, 8 VCC

## TIL196B
designator *
footprint SO-16 (SOIC, 16-Leads, Body 9.9x3.9mm, Pitch 1.27mm, IPC Medium Density)
pins: 1, 2, 3, 4, 5, 6, 7, 8, 9, 10 (power), 11, 12, 13, 14, 15, 16

## TLP350
designator U?  (value not drawn)
footprint DIP8_TOS
pins: 1, 2, 3, 4, 5, 6, 7, 8
text: SHIELD

## TOP244PN
designator *
footprint DIP-8B
pins: 1 M, 2 S, 3 S, 4 C, 5 D, 7 S, 8 S

## TPIC6273
designator *
footprint SO-20 (20-Pin Small Outline Package 1.27 mm Pitch)
pins: 1 CLR, 2 D1, 3 D2, 4 DR1, 5 DR2, 6 DR3, 7 DR4, 8 D3, 9 D4, 10 GND (power), 11 CLK, 12 D5, 13 D6, 14 DR5, 15 DR6, 16 DR7, 17 DR8, 18 D7, 19 D8, 20 VCC (power)

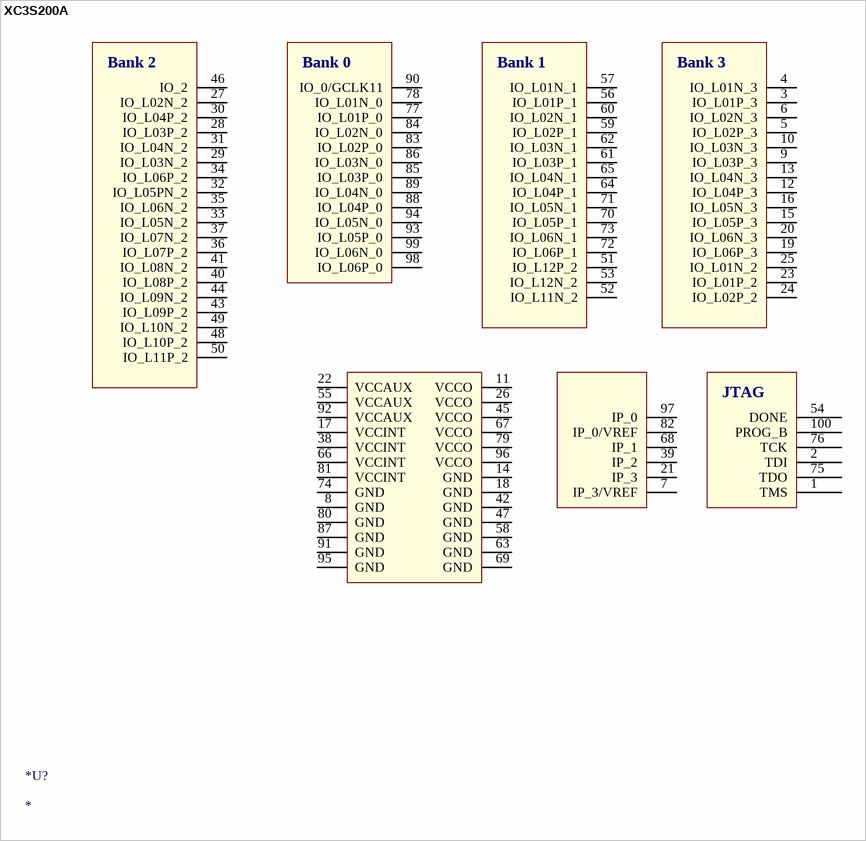
[diagram p4: symbol XC3S200A]

## XC3S200A
designator *U?
footprint XC3S200A4PQ100
pins: 1 TMS, 2 TDI, 3 IO_L01P_3, 4 IO_L01N_3, 5 IO_L02P_3, 6 IO_L02N_3, 7 IP_3/VREF, 8 GND, 9 IO_L03P_3, 10 IO_L03N_3, 11 VCCO, 12 IO_L04P_3, 13 IO_L04N_3, 14 GND, 15 IO_L05P_3, 16 IO_L05N_3, 17 VCCINT, 18 GND, 19 IO_L06P_3, 20 IO_L06N_3, 21 IP_3, 22 VCCAUX, 23 IO_L01P_2, 24 IO_L02P_2, 25 IO_L01N_2, 26 VCCO, 27 IO_L02N_2, 28 IO_L03P_2, 29 IO_L03N_2, 30 IO_L04P_2, 31 IO_L04N_2, 32 IO_L05PN_2, 33 IO_L05N_2, 34 IO_L06P_2, 35 IO_L06N_2, 36 IO_L07P_2, 37 IO_L07N_2, 38 VCCINT, 39 IP_2, 40 IO_L08P_2, 41 IO_L08N_2, 42 GND, 43 IO_L09P_2, 44 IO_L09N_2, 45 VCCO, 46 IO_2, 47 GND, 48 IO_L10P_2, 49 IO_L10N_2, 50 IO_L11P_2, 51 IO_L12P_2, 52 IO_L11N_2, 53 IO_L12N_2, 54 DONE, 55 VCCAUX, 56 IO_L01P_1, 57 IO_L01N_1, 58 GND, 59 IO_L02P_1, 60 IO_L02N_1, 61 IO_L03P_1, 62 IO_L03N_1, 63 GND, 64 IO_L04P_1, 65 IO_L04N_1, 66 VCCINT, 67 VCCO, 68 IP_1, 69 GND, 70 IO_L05P_1, 71 IO_L05N_1, 72 IO_L06P_1, 73 IO_L06N_1, 74 GND, 75 TDO, 76 TCK, 77 IO_L01P_0, 78 IO_L01N_0, 79 VCCO, 80 GND, 81 VCCINT, 82 IP_0/VREF, 83 IO_L02P_0, 84 IO_L02N_0, 85 IO_L03P_0, 86 IO_L03N_0, 87 GND, 88 IO_L04P_0, 89 IO_L04N_0, 90 IO_0/GCLK11, 91 GND, 92 VCCAUX, 93 IO_L05P_0, 94 IO_L05N_0, 95 GND, 96 VCCO, 97 IP_0, 98 IO_L06P_0, 99 IO_L06N_0, 100 PROG_B
text: Bank 2; Bank 0; Bank 1; Bank 3; JTAG

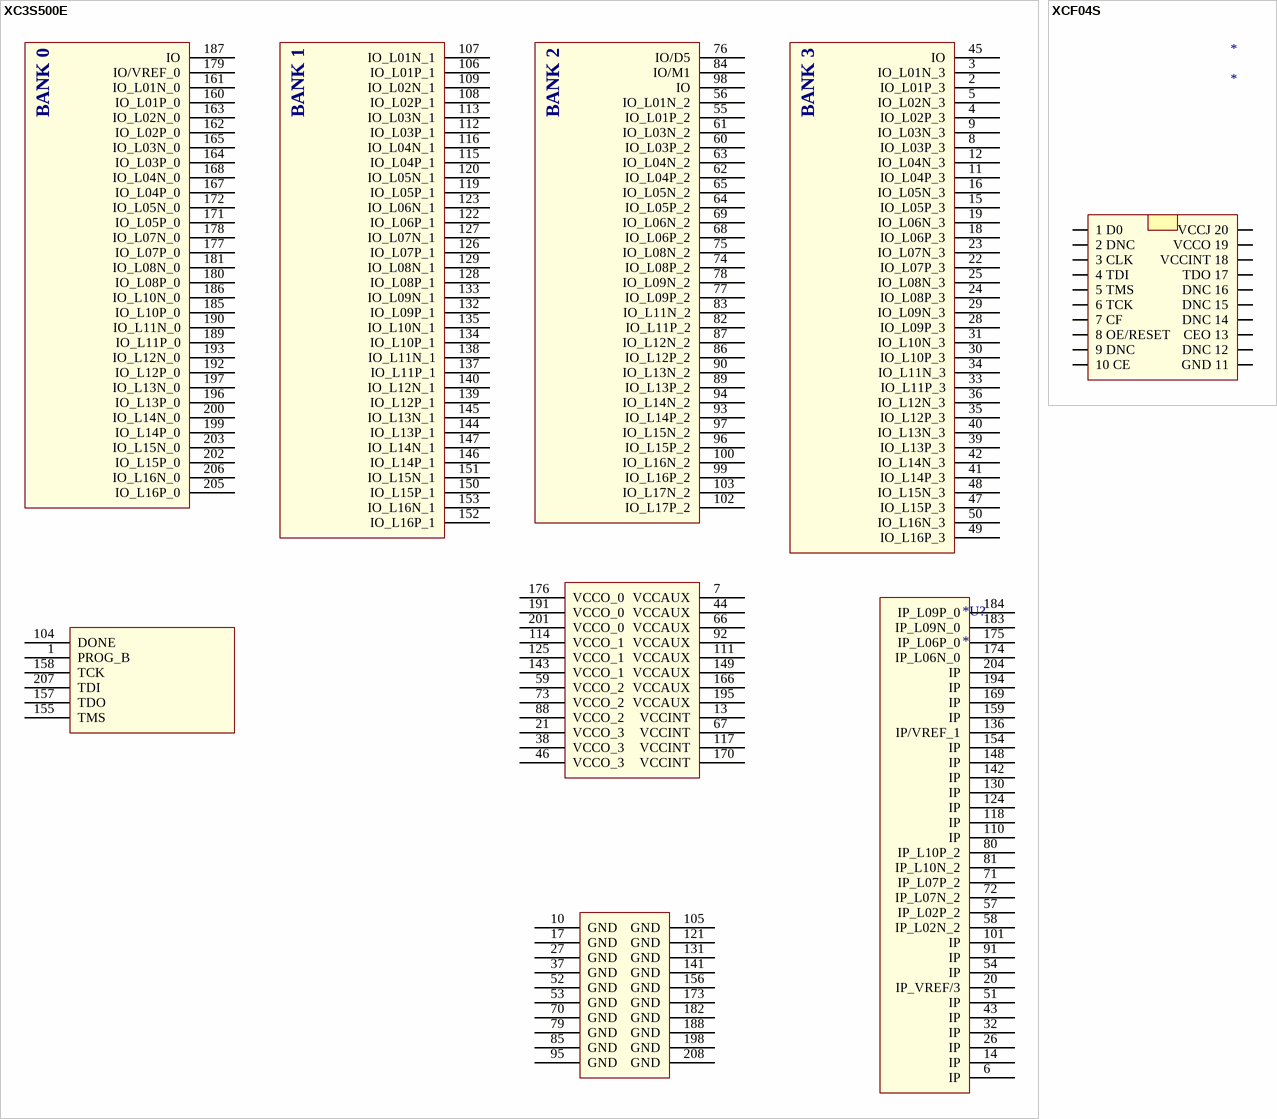
[diagram p5: symbols XC3S500E to XCF04S]

## XC3S500E
designator *U?
footprint XC3S500E4PQ208
footprint PQG208_L (Shrink QFP, 208-Leads, Body 28x28mm, Pitch 0.5mm, IPC High Density)
pins: 1 PROG_B, 2 IO_L01P_3, 3 IO_L01N_3, 4 IO_L02P_3, 5 IO_L02N_3, 6 IP, 7 VCCAUX, 8 IO_L03P_3, 9 IO_L03N_3, 10 GND, 11 IO_L04P_3, 12 IO_L04N_3, 13 VCCINT, 14 IP, 15 IO_L05P_3, 16 IO_L05N_3, 17 GND, 18 IO_L06P_3, 19 IO_L06N_3, 20 IP_VREF/3, 21 VCCO_3, 22 IO_L07P_3, 23 IO_L07N_3, 24 IO_L08P_3, 25 IO_L08N_3, 26 IP, 27 GND, 28 IO_L09P_3, 29 IO_L09N_3, 30 IO_L10P_3, 31 IO_L10N_3, 32 IP, 33 IO_L11P_3, 34 IO_L11N_3, 35 IO_L12P_3, 36 IO_L12N_3, 37 GND, 38 VCCO_3, 39 IO_L13P_3, 40 IO_L13N_3, 41 IO_L14P_3, 42 IO_L14N_3, 43 IP, 44 VCCAUX, 45 IO, 46 VCCO_3, 47 IO_L15P_3, 48 IO_L15N_3, 49 IO_L16P_3, 50 IO_L16N_3, 51 IP, 52 GND, 53 GND, 54 IP, 55 IO_L01P_2, 56 IO_L01N_2, 57 IP_L02P_2, 58 IP_L02N_2, 59 VCCO_2, 60 IO_L03P_2, 61 IO_L03N_2, 62 IO_L04P_2, 63 IO_L04N_2, 64 IO_L05P_2, 65 IO_L05N_2, 66 VCCAUX, 67 VCCINT, 68 IO_L06P_2, 69 IO_L06N_2, 70 GND, 71 IP_L07P_2, 72 IP_L07N_2, 73 VCCO_2, 74 IO_L08P_2, 75 IO_L08N_2, 76 IO/D5, 77 IO_L09P_2, 78 IO_L09N_2, 79 GND, 80 IP_L10P_2, 81 IP_L10N_2, 82 IO_L11P_2, 83 IO_L11N_2, 84 IO/M1, 85 GND, 86 IO_L12P_2, 87 IO_L12N_2, 88 VCCO_2, 89 IO_L13P_2, 90 IO_L13N_2, 91 IP, 92 VCCAUX, 93 IO_L14P_2, 94 IO_L14N_2, 95 GND, 96 IO_L15P_2, 97 IO_L15N_2, 98 IO, 99 IO_L16P_2, 100 IO_L16N_2, 101 IP, 102 IO_L17P_2, 103 IO_L17N_2, 104 DONE, 105 GND, 106 IO_L01P_1, 107 IO_L01N_1, 108 IO_L02P_1, 109 IO_L02N_1, 110 IP, 111 VCCAUX, 112 IO_L03P_1, 113 IO_L03N_1, 114 VCCO_1, 115 IO_L04P_1, 116 IO_L04N_1, 117 VCCINT, 118 IP, 119 IO_L05P_1, 120 IO_L05N_1, 121 GND, 122 IO_L06P_1, 123 IO_L06N_1, 124 IP, 125 VCCO_1, 126 IO_L07P_1, 127 IO_L07N_1, 128 IO_L08P_1, 129 IO_L08N_1, 130 IP, 131 GND, 132 IO_L09P_1, 133 IO_L09N_1, 134 IO_L10P_1, 135 IO_L10N_1, 136 IP/VREF_1, 137 IO_L11P_1, 138 IO_L11N_1, 139 IO_L12P_1, 140 IO_L12N_1, 141 GND, 142 IP, 143 VCCO_1, 144 IO_L13P_1, 145 IO_L13N_1, 146 IO_L14P_1, 147 IO_L14N_1, 148 IP, 149 VCCAUX, 150 IO_L15P_1, 151 IO_L15N_1, 152 IO_L16P_1, 153 IO_L16N_1, 154 IP, 155 TMS, 156 GND, 157 TDO, 158 TCK, 159 IP, 160 IO_L01P_0, 161 IO_L01N_0, 162 IO_L02P_0, 163 IO_L02N_0, 164 IO_L03P_0, 165 IO_L03N_0, 166 VCCAUX, 167 IO_L04P_0, 168 IO_L04N_0, 169 IP, 170 VCCINT, 171 IO_L05P_0, 172 IO_L05N_0, 173 GND, 174 IP_L06N_0, 175 IP_L06P_0, 176 VCCO_0, 177 IO_L07P_0, 178 IO_L07N_0, 179 IO/VREF_0, 180 IO_L08P_0, 181 IO_L08N_0, 182 GND, 183 IP_L09N_0, 184 IP_L09P_0, 185 IO_L10P_0, 186 IO_L10N_0, 187 IO, 188 GND, 189 IO_L11P_0, 190 IO_L11N_0, 191 VCCO_0, 192 IO_L12P_0, 193 IO_L12N_0, 194 IP, 195 VCCAUX, 196 IO_L13P_0, 197 IO_L13N_0, 198 GND, 199 IO_L14P_0, 200 IO_L14N_0, 201 VCCO_0, 202 IO_L15P_0, 203 IO_L15N_0, 204 IP, 205 IO_L16P_0, 206 IO_L16N_0, 207 TDI, 208 GND
text: BANK 0; BANK 1; BANK 2; BANK 3

## XCF04S
designator *
footprint XCF04S
pins: 1 1 D0, 2 2 DNC, 3 3 CLK, 4 4 TDI, 5 5 TMS, 6 6 TCK, 7 7 CF, 8 8 OE/RESET, 9 9 DNC, 10 10 CE, 11 GND 11, 12 DNC 12, 13 CEO 13, 14 DNC 14, 15 DNC 15, 16 DNC 16, 17 TDO 17, 18 VCCINT 18, 19 VCCO 19, 20 VCCJ 20